# Altium footprint library jointbar.PCBLIB: 193 footprints (part 4 of 13)
Each footprint in its own frame and in the unit in brackets; x right, y up, seen from the top. Pads: shape width x height; smd on the part's side, far side on the other; paste and mask are expansions set on the pad; w line width, h text height; cw(c..) or ccw(c..) is an arc to the next point about the centre after c.
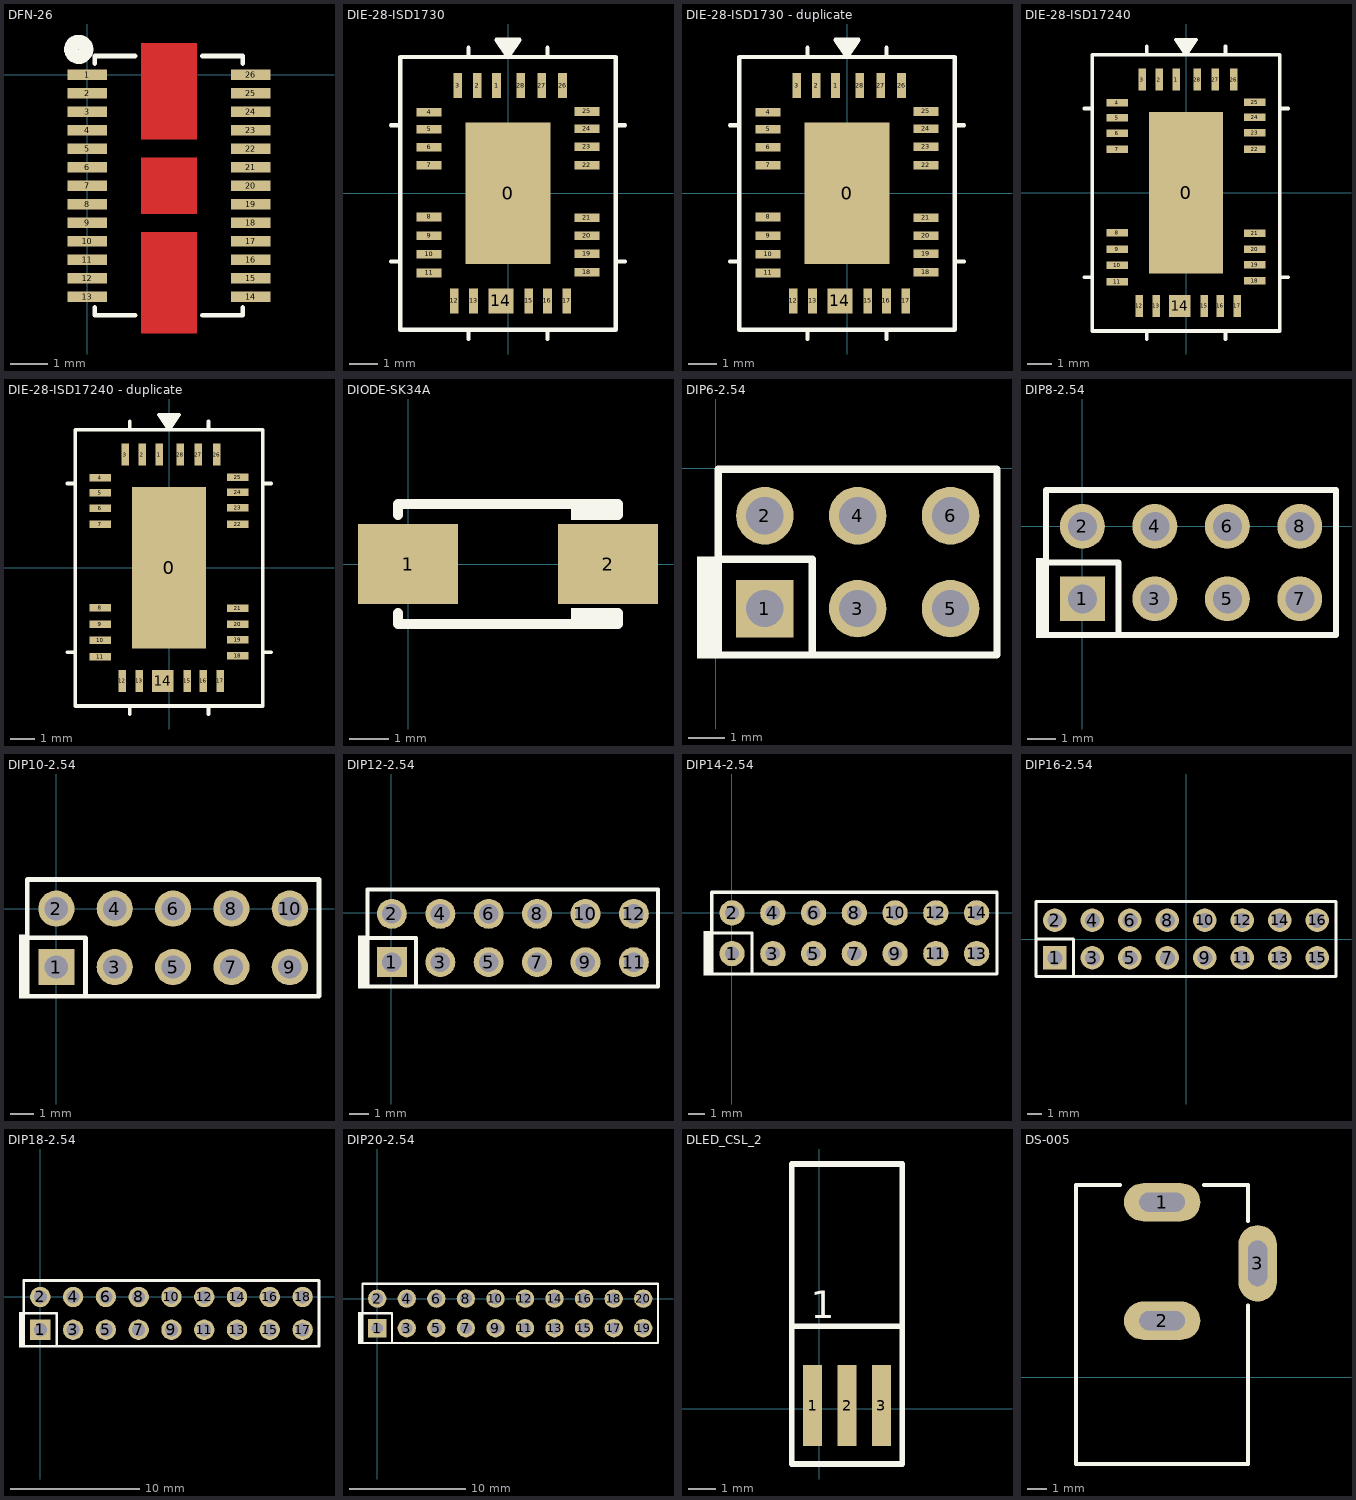
[diagram p3: the footprints below, top view; thin cyan lines are the x and y axes]

## DFN-26 [mil]
pads (26):
  rect 42x11 smd: 1(0,0) 2(0,-19.68) 3(0,-39.37) 4(0,-59.05) 5(0,-78.74) 6(0,-98.42) 7(0,-118.11) 8(0,-137.79) 9(0,-157.48) 10(0,-177.17) 11(0,-196.85) 12(0,-216.54) 13(0,-236.22) 14(174,-236.22) 15(174,-216.54) 16(174,-196.85) 17(174,-177.17) 18(174,-157.48) 19(174,-137.79) 20(174,-118.11) 21(174,-98.42) 22(174,-78.74) 23(174,-59.05) 24(174,-39.37) 25(174,-19.68) 26(174,0)
TopLayer:
  rectangle: 57,-275 117,-167
  rectangle: 57,-69 117,34
  rectangle: 57,-148.11 117,-88.11
TopOverlay:
  circle w15: c-9,27 r8
  lines w5: 8,-247.59 8,-255.59 51,-255.59 ; 8,12 8,20 51,20 ; 122.48,-255.59 165.48,-255.59 165.48,-247.59 ; 122.48,20 165.48,20 165.48,12
TopSolder:
  rectangle: 54,-281 120,-164
  rectangle: 54,-151 120,-85
  rectangle: 54,-72 120,38

## DIE-28-ISD1730 [mil]
pads (29):
  rect 118.11x196.85 smd: 0(0,0)
  rect 12x35 smd: 1(-16,150) 2(-43,150) 3(-70,150) 12(-75,-150) 13(-48,-150) 15(29,-150) 16(55,-150) 17(82,-150) 26(76,150) 27(47,150) 28(18,150)
  rect 35x12 smd: 4(-110,113) 5(-110,89) 6(-110,64) 7(-110,39) 8(-110,-33) 9(-110,-59) 10(-110,-85) 11(-110,-111) 18(110,-110) 19(110,-84) 20(110,-59) 21(110,-34) 22(110,39) 23(110,65) 24(110,90) 25(110,114)
  rect 35x35 smd: 14(-10,-150)
TopOverlay:
  rectangle: -11,201 11,215
  rectangle: -5,190 5,214
  lines w6: -163,-95 -150,-95 ; -163,95 -150,95 ; -55,-203 -55,-190 ; -55,190 -55,203 ; 55,-203 55,-190 ; 55,190 55,203 ; 150,-95 163,-95 ; 150,95 163,95 ; -150,-190 -150,190 150,190 150,-190 -150,-190 ; -16,214 0,190 16,214 0,214 -16,214
TopSolder:
  rectangle: -132,-172 132,172

## DIE-28-ISD1730 - duplicate [mil]
pads (29):
  rect 118.11x196.85 smd: 0(0,0)
  rect 12x35 smd: 1(-16,150) 2(-43,150) 3(-70,150) 12(-75,-150) 13(-48,-150) 15(29,-150) 16(55,-150) 17(82,-150) 26(76,150) 27(47,150) 28(18,150)
  rect 35x12 smd: 4(-110,113) 5(-110,89) 6(-110,64) 7(-110,39) 8(-110,-33) 9(-110,-59) 10(-110,-85) 11(-110,-111) 18(110,-110) 19(110,-84) 20(110,-59) 21(110,-34) 22(110,39) 23(110,65) 24(110,90) 25(110,114)
  rect 35x35 smd: 14(-10,-150)
TopOverlay:
  rectangle: -11,201 11,215
  rectangle: -5,190 5,214
  lines w6: -163,-95 -150,-95 ; -163,95 -150,95 ; -55,-203 -55,-190 ; -55,190 -55,203 ; 55,-203 55,-190 ; 55,190 55,203 ; 150,-95 163,-95 ; 150,95 163,95 ; -150,-190 -150,190 150,190 150,-190 -150,-190 ; -16,214 0,190 16,214 0,214 -16,214
TopSolder:
  rectangle: -132,-172 132,172

## DIE-28-ISD17240 [mil]
pads (29):
  rect 118.11x258 smd: 0(0,0)
  rect 12x35 smd: 1(-16,181) 2(-43,181) 3(-70,181) 12(-75,-181) 13(-48,-181) 15(29,-181) 16(55,-181) 17(82,-181) 26(76,181) 27(47,181) 28(18,181)
  rect 35x12 smd: 4(-110,144) 5(-110,120) 6(-110,95) 7(-110,70) 8(-110,-64) 9(-110,-90) 10(-110,-116) 11(-110,-142) 18(110,-141) 19(110,-115) 20(110,-90) 21(110,-65) 22(110,70) 23(110,96) 24(110,121) 25(110,145)
  rect 35x35 smd: 14(-10,-181)
TopOverlay:
  rectangle: -5,221 5,245
  rectangle: -11,232 11,246
  lines w6: -163,-135 -150,-135 ; -163,135 -150,135 ; -63,-234 -63,-221 ; -63,221 -63,234 ; 63,-234 63,-221 ; 63,221 63,234 ; 150,-135 163,-135 ; 150,135 163,135 ; -150,-221 150,-221 150,221 -150,221 -150,-221 ; -16,245 0,245 16,245 0,221 -16,245
TopSolder:
  rectangle: -132,-203 132,203

## DIE-28-ISD17240 - duplicate [mil]
pads (29):
  rect 118.11x258 smd: 0(0,0)
  rect 12x35 smd: 1(-16,181) 2(-43,181) 3(-70,181) 12(-75,-181) 13(-48,-181) 15(29,-181) 16(55,-181) 17(82,-181) 26(76,181) 27(47,181) 28(18,181)
  rect 35x12 smd: 4(-110,144) 5(-110,120) 6(-110,95) 7(-110,70) 8(-110,-64) 9(-110,-90) 10(-110,-116) 11(-110,-142) 18(110,-141) 19(110,-115) 20(110,-90) 21(110,-65) 22(110,70) 23(110,96) 24(110,121) 25(110,145)
  rect 35x35 smd: 14(-10,-181)
TopOverlay:
  rectangle: -5,221 5,245
  rectangle: -11,232 11,246
  lines w6: -163,-135 -150,-135 ; -163,135 -150,135 ; -63,-234 -63,-221 ; -63,221 -63,234 ; 63,-234 63,-221 ; 63,221 63,234 ; 150,-135 163,-135 ; 150,135 163,135 ; -150,-221 150,-221 150,221 -150,221 -150,-221 ; -16,245 0,245 16,245 0,221 -16,245
TopSolder:
  rectangle: -132,-203 132,203

## DIODE-SK34A [mil]
pads (2):
  rect 100x80 smd: 1(0,0) 2(200,0)
TopOverlay:
  rectangle: 163,-60 210,-44
  rectangle: 163,44 210,60
  lines w10: -10,-49 -10,-60 210,-60 210,-49 ; -10,49 -10,60 210,60 210,49

## DIP6-2.54 [mil]
pads (6):
  rect 62x62 hole 40: 1(53,-151)
  round 62 hole 40: 2(53,-51) 3(153,-151) 4(153,-51) 5(253,-151) 6(253,-51)
TopOverlay:
  rectangle: -20,-205 3,-95
  lines w8: 3,-98 104,-98 104,-200 ; 3,-201 3,-1 303,-1 303,-201 3,-201

## DIP8-2.54 [mil]
pads (8):
  rect 62x62 hole 40: 1(0,-100)
  round 62 hole 40: 2(0,0) 3(100,-100) 4(100,0) 5(200,-100) 6(200,0) 7(300,-100) 8(300,0)
TopOverlay:
  rectangle: -64,-154 -50,-44
  lines w8: -50,-50 50,-50 50,-150 ; -50,-150 350,-150 350,50 -50,50 -50,-150

## DIP10-2.54 [mil]
pads (10):
  rect 62x62 hole 40: 1(0,-100)
  round 62 hole 40: 2(0,0) 3(100,-100) 4(100,0) 5(200,-100) 6(200,0) 7(300,-100) 8(300,0) 9(400,-100) 10(400,0)
TopOverlay:
  rectangle: -64,-154 -50,-44
  lines w8: -50,-50 50,-50 50,-150 ; -50,-150 450,-150 450,50 -50,50 -50,-150

## DIP12-2.54 [mil]
pads (12):
  rect 62x62 hole 40: 1(1,-102)
  round 62 hole 40: 2(1,-2) 3(101,-102) 4(101,-2) 5(201,-102) 6(201,-2) 7(301,-102) 8(301,-2) 9(401,-102) 10(401,-2) 11(501,-102) 12(501,-2)
TopOverlay:
  rectangle: -69,-156 -49,-47
  lines w8: -49,-52 51,-52 51,-151 ; -49,-152 551,-152 551,48 -49,48 -49,-152

## DIP14-2.54 [mil]
pads (14):
  round 62 hole 35: 1(1,-99.67) 2(1,0.33) 3(101,-99.67) 4(101,0.33) 5(201,-99.67) 6(201,0.33) 7(301,-99.67) 8(301,0.33) 9(401,-99.67) 10(401,0.33) 11(501,-99.67) 12(501,0.33) 13(601,-99.67) 14(601,0.33)
TopOverlay:
  rectangle: -69,-153.67 -49,-44
  lines w8: -49,-49 49,-49 50,-50 50,-148.67 49,-149.67 ; -49,-149.67 651,-149.67 651,51 -49,51 -49,-149.67

## DIP16-2.54 [mil]
pads (16):
  rect 62x62 hole 40: 1(-350,-50)
  round 62 hole 40: 2(-350,50) 3(-250,-50) 4(-250,50) 5(-150,-50) 6(-150,50) 7(-50,-50) 8(-50,50) 9(50,-50) 10(50,50) 11(150,-50) 12(150,50) 13(250,-50) 14(250,50) 15(350,-50) 16(350,50)
TopOverlay:
  lines w8: -400,0 -300,0 -300,-100 ; -400,-100 400,-100 400,100 -400,100 -400,-100

## DIP18-2.54 [mil]
height 10
pads (18):
  rect 62x62 hole 40: 1(0,-100)
  round 62 hole 40: 2(0,0) 3(100,-100) 4(100,0) 5(200,-100) 6(200,0) 7(300,-100) 8(300,0) 9(400,-100) 10(400,0) 11(500,-100) 12(500,0) 13(600,-100) 14(600,0) 15(700,-100) 16(700,0) 17(800,-100) 18(800,0)
TopOverlay:
  rectangle: -65,-154 -50,-46
  lines w8: -50,-50 50,-50 50,-150 ; -50,-150 -50,50 850,50 850,-150 -50,-150

## DIP20-2.54 [mil]
height 10
pads (20):
  rect 62x62 hole 40: 1(0,-100)
  round 62 hole 40: 2(0,0) 3(100,-100) 4(100,0) 5(200,-100) 6(200,0) 7(300,-100) 8(300,0) 9(400,-100) 10(400,0) 11(500,-100) 12(500,0) 13(600,-100) 14(600,0) 15(700,-100) 16(700,0) 17(800,-100) 18(800,0) 19(900,-100) 20(900,0)
TopOverlay:
  rectangle: -65,-154 -50,-46
  lines w8: -50,-50 50,-50 50,-150 ; -50,-150 950,-150 950,50 -50,50 -50,-150

## DLED_CSL_2 [mm]
pads (3):
  rect 0.7x3 smd: 1(-0.254,0.127) 2(1.016,0.127) 3(2.286,0.127)
TopOverlay:
  lines w0.203: -1.016,3.048 3.048,3.048 ; -1.016,-2.032 -1.016,9.048 3.048,9.048 3.048,-2.032 -1.016,-2.032
  text "1" at -0.33,3.353 h1.02

## DS-005 [mm]
pads (3):
  oval 4x2 hole 1 slot 2.388 at 0 deg: 1(-10.652,9.173) 2(-10.652,2.973)
  oval 2x4 hole 1 slot 2.388 at 90 deg: 3(-5.652,5.973)
TopOverlay:
  lines w0.2: -12.852,10.073 -15.152,10.073 -15.152,-4.527 -6.152,-4.527 -6.152,3.773 ; -8.452,10.073 -6.152,10.073 -6.152,8.173
Mechanical2:
  lines w1: -11.902,9.173 -9.402,9.173 ; -11.652,2.973 -9.652,2.973 ; -5.652,4.973 -5.652,6.973